# Altium schematic symbol library jlcpcb_2025_04_inductors_extended_0201.schlib: 459 symbols (part 3 of 9)
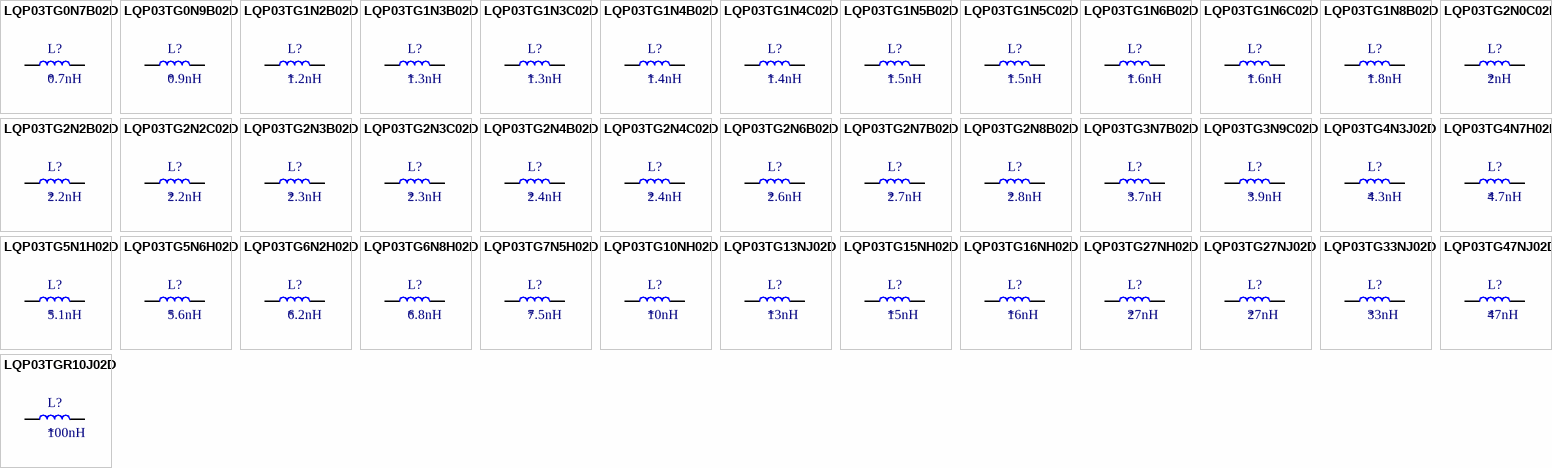
[diagram p13: symbols LQP03TG0N7B02D to LQP03TGR10J02D]

## LQP03TG6N8H02D
designator L?  Inductance: 6.8nH
Inductor, 6.8nH, ±3%, 1.15Ω, 200mA, SMD 0201; Manufacturer: Murata Electronics; Manufacturer Part Number: LQP03TG6N8H02D; Self-Resonant Frequency: 6.3GHz; Q Factor: 12@500MHz; Package Size: 0201; JLCPCB Basic Part: No; JLCPCB Part Number: C86120; Supplier 1: LCSC; Category: Inductors; Supplier Part Number 1: C86120; Tolerance: ±3%; Rated Current: 200mA; DC Resistance: 1.15Ω; RoHS: Yes; ComponentLink1Description: Datasheet; ComponentLink1URL: https://wmsc.lcsc.com/wmsc/upload/file/pdf/v2/lcsc/2304140030_Murata-Electronics-LQP03TG6N8H02D_C86120.pdf; ComponentLink2Description: JLCPCB Part URL; ComponentLink2URL: https://jlcpcb.com/partdetail/C86120; ComponentLink3Description: LCSC Part URL; ComponentLink3URL: https://lcsc.com/product-detail/Inductors-SMD_Murata-Electronics-Murata-Electronics-LQP03TG6N8H02D_C86120.html
footprint IND-0201 (0201 (0603M) Inductor)
pins: 1, 2

## LQP03TG7N5H02D
designator L?  Inductance: 7.5nH
Inductor, 7.5nH, ±3%, 1.22Ω, 200mA, SMD 0201; Manufacturer: Murata Electronics; Manufacturer Part Number: LQP03TG7N5H02D; Self-Resonant Frequency: 5.6GHz; Q Factor: 12@500MHz; Package Size: 0201; JLCPCB Basic Part: No; JLCPCB Part Number: C86121; Supplier 1: LCSC; Category: Inductors; Supplier Part Number 1: C86121; Tolerance: ±3%; Rated Current: 200mA; DC Resistance: 1.22Ω; RoHS: Yes; ComponentLink1Description: Datasheet; ComponentLink1URL: https://wmsc.lcsc.com/wmsc/upload/file/pdf/v2/lcsc/2304140030_Murata-Electronics-LQP03TG7N5H02D_C86121.pdf; ComponentLink2Description: JLCPCB Part URL; ComponentLink2URL: https://jlcpcb.com/partdetail/C86121; ComponentLink3Description: LCSC Part URL; ComponentLink3URL: https://lcsc.com/product-detail/Inductors-SMD_Murata-Electronics-Murata-Electronics-LQP03TG7N5H02D_C86121.html
footprint IND-0201 (0201 (0603M) Inductor)
pins: 1, 2

## LQP03TG10NH02D
designator L?  Inductance: 10nH
Inductor, 10nH, ±3%, 1.52Ω, 190mA, SMD 0201; Manufacturer: Murata Electronics; Manufacturer Part Number: LQP03TG10NH02D; Self-Resonant Frequency: 4.5GHz; Q Factor: 11@500MHz; Package Size: 0201; JLCPCB Basic Part: No; JLCPCB Part Number: C86095; Supplier 1: LCSC; Category: Inductors; Supplier Part Number 1: C86095; Tolerance: ±3%; Rated Current: 190mA; DC Resistance: 1.52Ω; RoHS: Yes; ComponentLink1Description: Datasheet; ComponentLink1URL: https://wmsc.lcsc.com/wmsc/upload/file/pdf/v2/lcsc/2304140030_Murata-Electronics-LQP03TG10NH02D_C86095.pdf; ComponentLink2Description: JLCPCB Part URL; ComponentLink2URL: https://jlcpcb.com/partdetail/C86095; ComponentLink3Description: LCSC Part URL; ComponentLink3URL: https://lcsc.com/product-detail/Inductors-SMD_Murata-Electronics-Murata-Electronics-LQP03TG10NH02D_C86095.html
footprint IND-0201 (0201 (0603M) Inductor)
pins: 1, 2

## LQP03TG13NJ02D
designator L?  Inductance: 13nH
Inductor, 13nH, ±5%, 1.82Ω, 170mA, SMD 0201; Manufacturer: Murata Electronics; Manufacturer Part Number: LQP03TG13NJ02D; Self-Resonant Frequency: 3.8GHz; Q Factor: 11@500MHz; Package Size: 0201; JLCPCB Basic Part: No; JLCPCB Part Number: C703742; Supplier 1: LCSC; Category: Inductors; Supplier Part Number 1: C703742; Tolerance: ±5%; Rated Current: 170mA; DC Resistance: 1.82Ω; RoHS: Yes; ComponentLink1Description: Datasheet; ComponentLink1URL: https://wmsc.lcsc.com/wmsc/upload/file/pdf/v2/lcsc/2304140030_Murata-Electronics-LQP03TG13NJ02D_C703742.pdf; ComponentLink2Description: JLCPCB Part URL; ComponentLink2URL: https://jlcpcb.com/partdetail/C703742; ComponentLink3Description: LCSC Part URL; ComponentLink3URL: https://lcsc.com/product-detail/Inductors-SMD_Murata-Electronics-Murata-Electronics-LQP03TG13NJ02D_C703742.html
footprint IND-0201 (0201 (0603M) Inductor)
pins: 1, 2

## LQP03TG15NH02D
designator L?  Inductance: 15nH
Inductor, 15nH, ±3%, 1.9Ω, 170mA, SMD 0201; Manufacturer: Murata Electronics; Manufacturer Part Number: LQP03TG15NH02D; Self-Resonant Frequency: 3.6GHz; Q Factor: 11@500MHz; Package Size: 0201; JLCPCB Basic Part: No; JLCPCB Part Number: C86097; Supplier 1: LCSC; Category: Inductors; Supplier Part Number 1: C86097; Tolerance: ±3%; Rated Current: 170mA; DC Resistance: 1.9Ω; RoHS: Yes; ComponentLink1Description: Datasheet; ComponentLink1URL: https://wmsc.lcsc.com/wmsc/upload/file/pdf/v2/lcsc/2304140030_Murata-Electronics-LQP03TG15NH02D_C86097.pdf; ComponentLink2Description: JLCPCB Part URL; ComponentLink2URL: https://jlcpcb.com/partdetail/C86097; ComponentLink3Description: LCSC Part URL; ComponentLink3URL: https://lcsc.com/product-detail/Inductors-SMD_Murata-Electronics-Murata-Electronics-LQP03TG15NH02D_C86097.html
footprint IND-0201 (0201 (0603M) Inductor)
pins: 1, 2

## LQP03TG16NH02D
designator L?  Inductance: 16nH
Inductor, 16nH, ±3%, 2.03Ω, 160mA, SMD 0201; Manufacturer: Murata Electronics; Manufacturer Part Number: LQP03TG16NH02D; Self-Resonant Frequency: 2.9GHz; Q Factor: 11@500MHz; Package Size: 0201; JLCPCB Basic Part: No; JLCPCB Part Number: C412257; Supplier 1: LCSC; Category: Inductors; Supplier Part Number 1: C412257; Tolerance: ±3%; Rated Current: 160mA; DC Resistance: 2.03Ω; RoHS: Yes; ComponentLink1Description: Datasheet; ComponentLink1URL: https://wmsc.lcsc.com/wmsc/upload/file/pdf/v2/lcsc/2304140030_Murata-Electronics-LQP03TG16NH02D_C412257.pdf; ComponentLink2Description: JLCPCB Part URL; ComponentLink2URL: https://jlcpcb.com/partdetail/C412257; ComponentLink3Description: LCSC Part URL; ComponentLink3URL: https://lcsc.com/product-detail/Inductors-SMD_Murata-Electronics-Murata-Electronics-LQP03TG16NH02D_C412257.html
footprint IND-0201 (0201 (0603M) Inductor)
pins: 1, 2

## LQP03TG27NH02D
designator L?  Inductance: 27nH
Inductor, 27nH, ±3%, 3.65Ω, 120mA, SMD 0201; Manufacturer: Murata Electronics; Manufacturer Part Number: LQP03TG27NH02D; Self-Resonant Frequency: 2.2GHz; Q Factor: 7@500MHz; Package Size: 0201; JLCPCB Basic Part: No; JLCPCB Part Number: C86105; Supplier 1: LCSC; Category: Inductors; Supplier Part Number 1: C86105; Tolerance: ±3%; Rated Current: 120mA; DC Resistance: 3.65Ω; RoHS: Yes; ComponentLink1Description: Datasheet; ComponentLink1URL: https://wmsc.lcsc.com/wmsc/upload/file/pdf/v2/lcsc/2304140030_Murata-Electronics-LQP03TG27NH02D_C86105.pdf; ComponentLink2Description: JLCPCB Part URL; ComponentLink2URL: https://jlcpcb.com/partdetail/C86105; ComponentLink3Description: LCSC Part URL; ComponentLink3URL: https://lcsc.com/product-detail/Inductors-SMD_Murata-Electronics-Murata-Electronics-LQP03TG27NH02D_C86105.html
footprint IND-0201 (0201 (0603M) Inductor)
pins: 1, 2

## LQP03TG27NJ02D
designator L?  Inductance: 27nH
Inductor, 27nH, ±5%, 3.65Ω, 120mA, SMD 0201; Manufacturer: Murata Electronics; Manufacturer Part Number: LQP03TG27NJ02D; Self-Resonant Frequency: 1.7GHz; Q Factor: 7@500MHz; Package Size: 0201; JLCPCB Basic Part: No; JLCPCB Part Number: C237582; Supplier 1: LCSC; Category: Inductors; Supplier Part Number 1: C237582; Tolerance: ±5%; Rated Current: 120mA; DC Resistance: 3.65Ω; RoHS: Yes; ComponentLink1Description: Datasheet; ComponentLink1URL: https://wmsc.lcsc.com/wmsc/upload/file/pdf/v2/lcsc/2308111548_Murata-Electronics-LQP03TG27NJ02D_C237582.pdf; ComponentLink2Description: JLCPCB Part URL; ComponentLink2URL: https://jlcpcb.com/partdetail/C237582; ComponentLink3Description: LCSC Part URL; ComponentLink3URL: https://lcsc.com/product-detail/Inductors-SMD_Murata-Electronics-Murata-Electronics-LQP03TG27NJ02D_C237582.html
footprint IND-0201 (0201 (0603M) Inductor)
pins: 1, 2

## LQP03TG33NJ02D
designator L?  Inductance: 33nH
Inductor, 33nH, ±5%, 4.25Ω, 110mA, SMD 0201; Manufacturer: Murata Electronics; Manufacturer Part Number: LQP03TG33NJ02D; Self-Resonant Frequency: 2GHz; Q Factor: 7@300MHz; Package Size: 0201; JLCPCB Basic Part: No; JLCPCB Part Number: C337948; Supplier 1: LCSC; Category: Inductors; Supplier Part Number 1: C337948; Tolerance: ±5%; Rated Current: 110mA; DC Resistance: 4.25Ω; RoHS: Yes; ComponentLink1Description: Datasheet; ComponentLink1URL: https://wmsc.lcsc.com/wmsc/upload/file/pdf/v2/lcsc/2304140030_Murata-Electronics-LQP03TG33NJ02D_C337948.pdf; ComponentLink2Description: JLCPCB Part URL; ComponentLink2URL: https://jlcpcb.com/partdetail/C337948; ComponentLink3Description: LCSC Part URL; ComponentLink3URL: https://lcsc.com/product-detail/Inductors-SMD_Murata-Electronics-Murata-Electronics-LQP03TG33NJ02D_C337948.html
footprint IND-0201 (0201 (0603M) Inductor)
pins: 1, 2

## LQP03TG47NJ02D
designator L?  Inductance: 47nH
Inductor, 47nH, ±5%, 5.2Ω, 100mA, SMD 0201; Manufacturer: Murata Electronics; Manufacturer Part Number: LQP03TG47NJ02D; Self-Resonant Frequency: 1.3GHz; Q Factor: 7@300MHz; Package Size: 0201; JLCPCB Basic Part: No; JLCPCB Part Number: C86115; Supplier 1: LCSC; Category: Inductors; Supplier Part Number 1: C86115; Tolerance: ±5%; Rated Current: 100mA; DC Resistance: 5.2Ω; RoHS: Yes; ComponentLink1Description: Datasheet; ComponentLink1URL: https://wmsc.lcsc.com/wmsc/upload/file/pdf/v2/lcsc/2304140030_Murata-Electronics-LQP03TG47NJ02D_C86115.pdf; ComponentLink2Description: JLCPCB Part URL; ComponentLink2URL: https://jlcpcb.com/partdetail/C86115; ComponentLink3Description: LCSC Part URL; ComponentLink3URL: https://lcsc.com/product-detail/Inductors-SMD_Murata-Electronics-Murata-Electronics-LQP03TG47NJ02D_C86115.html
footprint IND-0201 (0201 (0603M) Inductor)
pins: 1, 2

## LQP03TGR10J02D
designator L?  Inductance: 100nH
Inductor, 100nH, ±5%, 8.05Ω, 80mA, SMD 0201; Manufacturer: Murata Electronics; Manufacturer Part Number: LQP03TGR10J02D; Self-Resonant Frequency: 900MHz; Q Factor: 6@300MHz; Package Size: 0201; JLCPCB Basic Part: No; JLCPCB Part Number: C237577; Supplier 1: LCSC; Category: Inductors; Supplier Part Number 1: C237577; Tolerance: ±5%; Rated Current: 80mA; DC Resistance: 8.05Ω; RoHS: Yes; ComponentLink1Description: Datasheet; ComponentLink1URL: https://wmsc.lcsc.com/wmsc/upload/file/pdf/v2/lcsc/2308111548_Murata-Electronics-LQP03TGR10J02D_C237577.pdf; ComponentLink2Description: JLCPCB Part URL; ComponentLink2URL: https://jlcpcb.com/partdetail/C237577; ComponentLink3Description: LCSC Part URL; ComponentLink3URL: https://lcsc.com/product-detail/Inductors-SMD_Murata-Electronics-Murata-Electronics-LQP03TGR10J02D_C237577.html
footprint IND-0201 (0201 (0603M) Inductor)
pins: 1, 2

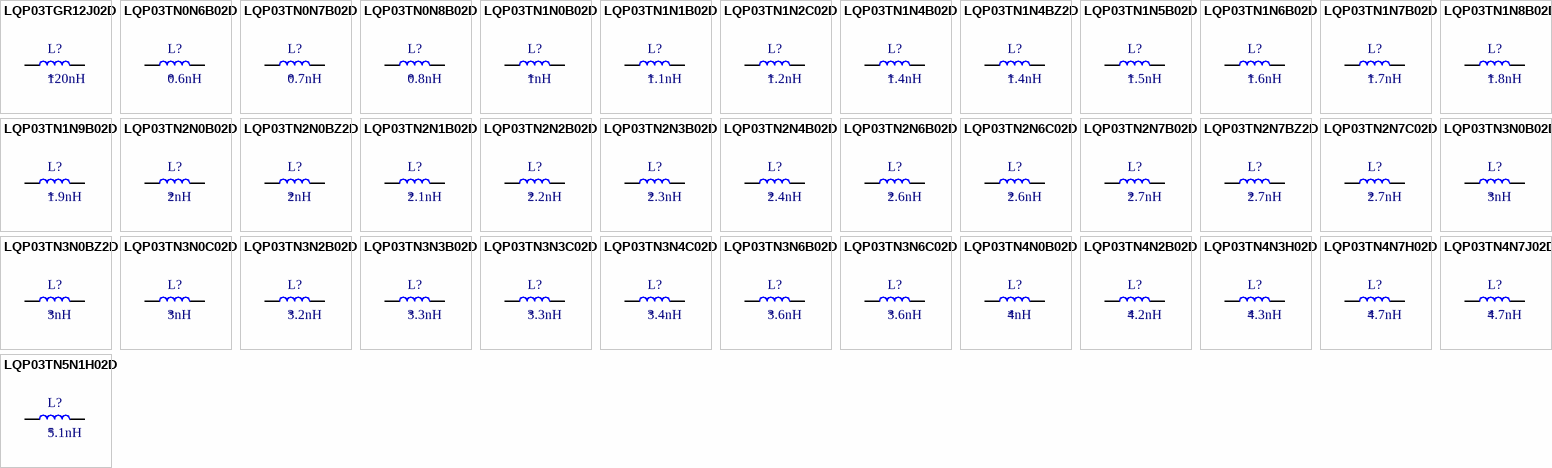
[diagram p3: symbols LQP03TGR12J02D to LQP03TN5N1H02D]

## LQP03TGR12J02D
designator L?  Inductance: 120nH
Inductor, 120nH, ±5%, 8.75Ω, 80mA, SMD 0201; Manufacturer: Murata Electronics; Manufacturer Part Number: LQP03TGR12J02D; Self-Resonant Frequency: 800MHz; Q Factor: 6@300MHz; Package Size: 0201; JLCPCB Basic Part: No; JLCPCB Part Number: C237580; Supplier 1: LCSC; Category: Inductors; Supplier Part Number 1: C237580; Tolerance: ±5%; Rated Current: 80mA; DC Resistance: 8.75Ω; RoHS: Yes; ComponentLink1Description: Datasheet; ComponentLink1URL: https://wmsc.lcsc.com/wmsc/upload/file/pdf/v2/lcsc/2304140030_Murata-Electronics-LQP03TGR12J02D_C237580.pdf; ComponentLink2Description: JLCPCB Part URL; ComponentLink2URL: https://jlcpcb.com/partdetail/C237580; ComponentLink3Description: LCSC Part URL; ComponentLink3URL: https://lcsc.com/product-detail/Inductors-SMD_Murata-Electronics-Murata-Electronics-LQP03TGR12J02D_C237580.html
footprint IND-0201 (0201 (0603M) Inductor)
pins: 1, 2

## LQP03TN0N6B02D
designator L?  Inductance: 0.6nH
Inductor, 0.6nH, 70mΩ, 850mA, SMD 0201; Manufacturer: Murata Electronics; Manufacturer Part Number: LQP03TN0N6B02D; Self-Resonant Frequency: 20GHz; Q Factor: 14@500MHz; Package Size: 0201; JLCPCB Basic Part: No; JLCPCB Part Number: C77699; Supplier 1: LCSC; Category: Inductors; Supplier Part Number 1: C77699; Rated Current: 850mA; DC Resistance: 70mΩ; RoHS: Yes; ComponentLink1Description: Datasheet; ComponentLink1URL: https://wmsc.lcsc.com/wmsc/upload/file/pdf/v2/lcsc/1811081522_Murata-Electronics-LQP03TN0N6B02D_C77699.pdf; ComponentLink2Description: JLCPCB Part URL; ComponentLink2URL: https://jlcpcb.com/partdetail/C77699; ComponentLink3Description: LCSC Part URL; ComponentLink3URL: https://lcsc.com/product-detail/Inductors-SMD_Murata-Electronics-Murata-Electronics-LQP03TN0N6B02D_C77699.html
footprint IND-0201 (0201 (0603M) Inductor)
pins: 1, 2

## LQP03TN0N7B02D
designator L?  Inductance: 0.7nH
Inductor, 0.7nH, 80mΩ, 800mA, SMD 0201; Manufacturer: Murata Electronics; Manufacturer Part Number: LQP03TN0N7B02D; Self-Resonant Frequency: 20GHz; Q Factor: 14@500MHz; Package Size: 0201; JLCPCB Basic Part: No; JLCPCB Part Number: C157593; Supplier 1: LCSC; Category: Inductors; Supplier Part Number 1: C157593; Rated Current: 800mA; DC Resistance: 80mΩ; RoHS: Yes; ComponentLink1Description: Datasheet; ComponentLink1URL: https://wmsc.lcsc.com/wmsc/upload/file/pdf/v2/lcsc/2304140030_Murata-Electronics-LQP03TN0N7B02D_C157593.pdf; ComponentLink2Description: JLCPCB Part URL; ComponentLink2URL: https://jlcpcb.com/partdetail/C157593; ComponentLink3Description: LCSC Part URL; ComponentLink3URL: https://lcsc.com/product-detail/Inductors-SMD_Murata-Electronics-Murata-Electronics-LQP03TN0N7B02D_C157593.html
footprint IND-0201 (0201 (0603M) Inductor)
pins: 1, 2

## LQP03TN0N8B02D
designator L?  Inductance: 0.8nH
Inductor, 0.8nH, 80mΩ, 800mA, SMD 0201; Manufacturer: Murata Electronics; Manufacturer Part Number: LQP03TN0N8B02D; Self-Resonant Frequency: 18GHz; Q Factor: 14@500MHz; Package Size: 0201; JLCPCB Basic Part: No; JLCPCB Part Number: C156227; Supplier 1: LCSC; Category: Inductors; Supplier Part Number 1: C156227; Rated Current: 800mA; DC Resistance: 80mΩ; RoHS: Yes; ComponentLink1Description: Datasheet; ComponentLink1URL: https://wmsc.lcsc.com/wmsc/upload/file/pdf/v2/lcsc/2304140030_Murata-Electronics-LQP03TN0N8B02D_C156227.pdf; ComponentLink2Description: JLCPCB Part URL; ComponentLink2URL: https://jlcpcb.com/partdetail/C156227; ComponentLink3Description: LCSC Part URL; ComponentLink3URL: https://lcsc.com/product-detail/Inductors-SMD_Murata-Electronics-Murata-Electronics-LQP03TN0N8B02D_C156227.html
footprint IND-0201 (0201 (0603M) Inductor)
pins: 1, 2

## LQP03TN1N0B02D
designator L?  Inductance: 1nH
Inductor, 1nH, 100mΩ, 750mA, SMD 0201; Manufacturer: Murata Electronics; Manufacturer Part Number: LQP03TN1N0B02D; Self-Resonant Frequency: 17GHz; Q Factor: 14@500MHz; Package Size: 0201; JLCPCB Basic Part: No; JLCPCB Part Number: C98039; Supplier 1: LCSC; Category: Inductors; Supplier Part Number 1: C98039; Rated Current: 750mA; DC Resistance: 100mΩ; RoHS: Yes; ComponentLink1Description: Datasheet; ComponentLink1URL: https://wmsc.lcsc.com/wmsc/upload/file/pdf/v2/lcsc/2304140030_Murata-Electronics-LQP03TN1N0B02D_C98039.pdf; ComponentLink2Description: JLCPCB Part URL; ComponentLink2URL: https://jlcpcb.com/partdetail/C98039; ComponentLink3Description: LCSC Part URL; ComponentLink3URL: https://lcsc.com/product-detail/Inductors-SMD_Murata-Electronics-Murata-Electronics-LQP03TN1N0B02D_C98039.html
footprint IND-0201 (0201 (0603M) Inductor)
pins: 1, 2

## LQP03TN1N1B02D
designator L?  Inductance: 1.1nH
Inductor, 1.1nH, 100mΩ, 750mA, SMD 0201; Manufacturer: Murata Electronics; Manufacturer Part Number: LQP03TN1N1B02D; Self-Resonant Frequency: 17GHz; Q Factor: 14@500MHz; Package Size: 0201; JLCPCB Basic Part: No; JLCPCB Part Number: C206452; Supplier 1: LCSC; Category: Inductors; Supplier Part Number 1: C206452; Rated Current: 750mA; DC Resistance: 100mΩ; RoHS: Yes; ComponentLink1Description: Datasheet; ComponentLink1URL: https://wmsc.lcsc.com/wmsc/upload/file/pdf/v2/lcsc/2304140030_Murata-Electronics-LQP03TN1N1B02D_C206452.pdf; ComponentLink2Description: JLCPCB Part URL; ComponentLink2URL: https://jlcpcb.com/partdetail/C206452; ComponentLink3Description: LCSC Part URL; ComponentLink3URL: https://lcsc.com/product-detail/Inductors-SMD_Murata-Electronics-Murata-Electronics-LQP03TN1N1B02D_C206452.html
footprint IND-0201 (0201 (0603M) Inductor)
pins: 1, 2

## LQP03TN1N2C02D
designator L?  Inductance: 1.2nH
Inductor, 1.2nH, 100mΩ, 750mA, SMD 0201; Manufacturer: Murata Electronics; Manufacturer Part Number: LQP03TN1N2C02D; Self-Resonant Frequency: 17GHz; Q Factor: 14@500MHz; Package Size: 0201; JLCPCB Basic Part: No; JLCPCB Part Number: C206450; Supplier 1: LCSC; Category: Inductors; Supplier Part Number 1: C206450; Rated Current: 750mA; DC Resistance: 100mΩ; RoHS: Yes; ComponentLink1Description: Datasheet; ComponentLink1URL: https://wmsc.lcsc.com/wmsc/upload/file/pdf/v2/lcsc/2304140030_Murata-Electronics-LQP03TN1N2C02D_C206450.pdf; ComponentLink2Description: JLCPCB Part URL; ComponentLink2URL: https://jlcpcb.com/partdetail/C206450; ComponentLink3Description: LCSC Part URL; ComponentLink3URL: https://lcsc.com/product-detail/Inductors-SMD_Murata-Electronics-Murata-Electronics-LQP03TN1N2C02D_C206450.html
footprint IND-0201 (0201 (0603M) Inductor)
pins: 1, 2

## LQP03TN1N4B02D
designator L?  Inductance: 1.4nH
Inductor, 1.4nH, 150mΩ, 600mA, SMD 0201; Manufacturer: Murata Electronics; Manufacturer Part Number: LQP03TN1N4B02D; Self-Resonant Frequency: 16GHz; Q Factor: 14@500MHz; Package Size: 0201; JLCPCB Basic Part: No; JLCPCB Part Number: C162602; Supplier 1: LCSC; Category: Inductors; Supplier Part Number 1: C162602; Rated Current: 600mA; DC Resistance: 150mΩ; RoHS: Yes; ComponentLink1Description: Datasheet; ComponentLink1URL: https://wmsc.lcsc.com/wmsc/upload/file/pdf/v2/lcsc/2304140030_Murata-Electronics-LQP03TN1N4B02D_C162602.pdf; ComponentLink2Description: JLCPCB Part URL; ComponentLink2URL: https://jlcpcb.com/partdetail/C162602; ComponentLink3Description: LCSC Part URL; ComponentLink3URL: https://lcsc.com/product-detail/Inductors-SMD_Murata-Electronics-Murata-Electronics-LQP03TN1N4B02D_C162602.html
footprint IND-0201 (0201 (0603M) Inductor)
pins: 1, 2

## LQP03TN1N4BZ2D
designator L?  Inductance: 1.4nH
Inductor, 1.4nH, 150mΩ, 600mA, SMD 0201; Manufacturer: Murata Electronics; Manufacturer Part Number: LQP03TN1N4BZ2D; Package Size: 0201; JLCPCB Basic Part: No; JLCPCB Part Number: C162603; Supplier 1: LCSC; Category: Inductors; Supplier Part Number 1: C162603; Rated Current: 600mA; DC Resistance: 150mΩ; RoHS: Yes; ComponentLink1Description: Datasheet; ComponentLink1URL: https://wmsc.lcsc.com/wmsc/upload/file/pdf/v2/lcsc/1811081533_Murata-Electronics-LQP03TN1N4BZ2D_C162603.pdf; ComponentLink2Description: JLCPCB Part URL; ComponentLink2URL: https://jlcpcb.com/partdetail/C162603; ComponentLink3Description: LCSC Part URL; ComponentLink3URL: https://lcsc.com/product-detail/Inductors-SMD_Murata-Electronics-Murata-Electronics-LQP03TN1N4BZ2D_C162603.html
footprint IND-0201 (0201 (0603M) Inductor)
pins: 1, 2

## LQP03TN1N5B02D
designator L?  Inductance: 1.5nH
Inductor, 1.5nH, 150mΩ, 600mA, SMD 0201; Manufacturer: Murata Electronics; Manufacturer Part Number: LQP03TN1N5B02D; Self-Resonant Frequency: 15GHz; Q Factor: 14@500MHz; Package Size: 0201; JLCPCB Basic Part: No; JLCPCB Part Number: C77114; Supplier 1: LCSC; Category: Inductors; Supplier Part Number 1: C77114; Rated Current: 600mA; DC Resistance: 150mΩ; RoHS: Yes; ComponentLink1Description: Datasheet; ComponentLink1URL: https://wmsc.lcsc.com/wmsc/upload/file/pdf/v2/lcsc/2304140030_Murata-Electronics-LQP03TN1N5B02D_C77114.pdf; ComponentLink2Description: JLCPCB Part URL; ComponentLink2URL: https://jlcpcb.com/partdetail/C77114; ComponentLink3Description: LCSC Part URL; ComponentLink3URL: https://lcsc.com/product-detail/Inductors-SMD_Murata-Electronics-Murata-Electronics-LQP03TN1N5B02D_C77114.html
footprint IND-0201 (0201 (0603M) Inductor)
pins: 1, 2

## LQP03TN1N6B02D
designator L?  Inductance: 1.6nH
Inductor, 1.6nH, 150mΩ, 600mA, SMD 0201; Manufacturer: Murata Electronics; Manufacturer Part Number: LQP03TN1N6B02D; Self-Resonant Frequency: 15GHz; Q Factor: 14@500MHz; Package Size: 0201; JLCPCB Basic Part: No; JLCPCB Part Number: C162604; Supplier 1: LCSC; Category: Inductors; Supplier Part Number 1: C162604; Rated Current: 600mA; DC Resistance: 150mΩ; RoHS: Yes; ComponentLink1Description: Datasheet; ComponentLink1URL: https://wmsc.lcsc.com/wmsc/upload/file/pdf/v2/lcsc/2304140030_Murata-Electronics-LQP03TN1N6B02D_C162604.pdf; ComponentLink2Description: JLCPCB Part URL; ComponentLink2URL: https://jlcpcb.com/partdetail/C162604; ComponentLink3Description: LCSC Part URL; ComponentLink3URL: https://lcsc.com/product-detail/Inductors-SMD_Murata-Electronics-Murata-Electronics-LQP03TN1N6B02D_C162604.html
footprint IND-0201 (0201 (0603M) Inductor)
pins: 1, 2

## LQP03TN1N7B02D
designator L?  Inductance: 1.7nH
Inductor, 1.7nH, 150mΩ, 600mA, SMD 0201; Manufacturer: Murata Electronics; Manufacturer Part Number: LQP03TN1N7B02D; Self-Resonant Frequency: 15GHz; Q Factor: 14@500MHz; Package Size: 0201; JLCPCB Basic Part: No; JLCPCB Part Number: C157592; Supplier 1: LCSC; Category: Inductors; Supplier Part Number 1: C157592; Rated Current: 600mA; DC Resistance: 150mΩ; RoHS: Yes; ComponentLink1Description: Datasheet; ComponentLink1URL: https://wmsc.lcsc.com/wmsc/upload/file/pdf/v2/lcsc/2304140030_Murata-Electronics-LQP03TN1N7B02D_C157592.pdf; ComponentLink2Description: JLCPCB Part URL; ComponentLink2URL: https://jlcpcb.com/partdetail/C157592; ComponentLink3Description: LCSC Part URL; ComponentLink3URL: https://lcsc.com/product-detail/Inductors-SMD_Murata-Electronics-Murata-Electronics-LQP03TN1N7B02D_C157592.html
footprint IND-0201 (0201 (0603M) Inductor)
pins: 1, 2

## LQP03TN1N8B02D
designator L?  Inductance: 1.8nH
Inductor, 1.8nH, 150mΩ, 600mA, SMD 0201; Manufacturer: Murata Electronics; Manufacturer Part Number: LQP03TN1N8B02D; Self-Resonant Frequency: 15GHz; Q Factor: 14@500MHz; Package Size: 0201; JLCPCB Basic Part: No; JLCPCB Part Number: C98040; Supplier 1: LCSC; Category: Inductors; Supplier Part Number 1: C98040; Rated Current: 600mA; DC Resistance: 150mΩ; RoHS: Yes; ComponentLink1Description: Datasheet; ComponentLink1URL: https://wmsc.lcsc.com/wmsc/upload/file/pdf/v2/lcsc/2304140030_Murata-Electronics-LQP03TN1N8B02D_C98040.pdf; ComponentLink2Description: JLCPCB Part URL; ComponentLink2URL: https://jlcpcb.com/partdetail/C98040; ComponentLink3Description: LCSC Part URL; ComponentLink3URL: https://lcsc.com/product-detail/Inductors-SMD_Murata-Electronics-Murata-Electronics-LQP03TN1N8B02D_C98040.html
footprint IND-0201 (0201 (0603M) Inductor)
pins: 1, 2

## LQP03TN1N9B02D
designator L?  Inductance: 1.9nH
Inductor, 1.9nH, 150mΩ, 600mA, SMD 0201; Manufacturer: Murata Electronics; Manufacturer Part Number: LQP03TN1N9B02D; Self-Resonant Frequency: 12.5GHz; Q Factor: 14@500MHz; Package Size: 0201; JLCPCB Basic Part: No; JLCPCB Part Number: C206445; Supplier 1: LCSC; Category: Inductors; Supplier Part Number 1: C206445; Rated Current: 600mA; DC Resistance: 150mΩ; RoHS: Yes; ComponentLink1Description: Datasheet; ComponentLink1URL: https://wmsc.lcsc.com/wmsc/upload/file/pdf/v2/lcsc/2304140030_Murata-Electronics-LQP03TN1N9B02D_C206445.pdf; ComponentLink2Description: JLCPCB Part URL; ComponentLink2URL: https://jlcpcb.com/partdetail/C206445; ComponentLink3Description: LCSC Part URL; ComponentLink3URL: https://lcsc.com/product-detail/Inductors-SMD_Murata-Electronics-Murata-Electronics-LQP03TN1N9B02D_C206445.html
footprint IND-0201 (0201 (0603M) Inductor)
pins: 1, 2

## LQP03TN2N0B02D
designator L?  Inductance: 2nH
Inductor, 2nH, 150mΩ, 600mA, SMD 0201; Manufacturer: Murata Electronics; Manufacturer Part Number: LQP03TN2N0B02D; Self-Resonant Frequency: 12.5GHz; Q Factor: 14@500MHz; Package Size: 0201; JLCPCB Basic Part: No; JLCPCB Part Number: C86125; Supplier 1: LCSC; Category: Inductors; Supplier Part Number 1: C86125; Rated Current: 600mA; DC Resistance: 150mΩ; RoHS: Yes; ComponentLink1Description: Datasheet; ComponentLink1URL: https://wmsc.lcsc.com/wmsc/upload/file/pdf/v2/lcsc/2304140030_Murata-Electronics-LQP03TN2N0B02D_C86125.pdf; ComponentLink2Description: JLCPCB Part URL; ComponentLink2URL: https://jlcpcb.com/partdetail/C86125; ComponentLink3Description: LCSC Part URL; ComponentLink3URL: https://lcsc.com/product-detail/Inductors-SMD_Murata-Electronics-Murata-Electronics-LQP03TN2N0B02D_C86125.html
footprint IND-0201 (0201 (0603M) Inductor)
pins: 1, 2

## LQP03TN2N0BZ2D
designator L?  Inductance: 2nH
Inductor, 2nH, 150mΩ, 600mA, SMD 0201; Manufacturer: Murata Electronics; Manufacturer Part Number: LQP03TN2N0BZ2D; Self-Resonant Frequency: 12.5GHz; Q Factor: 14@500MHz; Package Size: 0201; JLCPCB Basic Part: No; JLCPCB Part Number: C3910682; Supplier 1: LCSC; Category: Inductors; Supplier Part Number 1: C3910682; Rated Current: 600mA; DC Resistance: 150mΩ; RoHS: Yes; ComponentLink1Description: Datasheet; ComponentLink1URL: https://wmsc.lcsc.com/wmsc/upload/file/pdf/v2/lcsc/2308111609_Murata-Electronics-LQP03TN2N0BZ2D_C3910682.pdf; ComponentLink2Description: JLCPCB Part URL; ComponentLink2URL: https://jlcpcb.com/partdetail/C3910682; ComponentLink3Description: LCSC Part URL; ComponentLink3URL: https://lcsc.com/product-detail/Inductors-SMD_Murata-Electronics-Murata-Electronics-LQP03TN2N0BZ2D_C3910682.html
footprint IND-0201 (0201 (0603M) Inductor)
pins: 1, 2

## LQP03TN2N1B02D
designator L?  Inductance: 2.1nH
Inductor, 2.1nH, 150mΩ, 600mA, SMD 0201; Manufacturer: Murata Electronics; Manufacturer Part Number: LQP03TN2N1B02D; Self-Resonant Frequency: 11GHz; Q Factor: 14@500MHz; Package Size: 0201; JLCPCB Basic Part: No; JLCPCB Part Number: C162608; Supplier 1: LCSC; Category: Inductors; Supplier Part Number 1: C162608; Rated Current: 600mA; DC Resistance: 150mΩ; RoHS: Yes; ComponentLink1Description: Datasheet; ComponentLink1URL: https://wmsc.lcsc.com/wmsc/upload/file/pdf/v2/lcsc/2304140030_Murata-Electronics-LQP03TN2N1B02D_C162608.pdf; ComponentLink2Description: JLCPCB Part URL; ComponentLink2URL: https://jlcpcb.com/partdetail/C162608; ComponentLink3Description: LCSC Part URL; ComponentLink3URL: https://lcsc.com/product-detail/Inductors-SMD_Murata-Electronics-Murata-Electronics-LQP03TN2N1B02D_C162608.html
footprint IND-0201 (0201 (0603M) Inductor)
pins: 1, 2

## LQP03TN2N2B02D
designator L?  Inductance: 2.2nH
Inductor, 2.2nH, 150mΩ, 600mA, SMD 0201; Manufacturer: Murata Electronics; Manufacturer Part Number: LQP03TN2N2B02D; Self-Resonant Frequency: 11GHz; Q Factor: 14@500MHz; Package Size: 0201; JLCPCB Basic Part: No; JLCPCB Part Number: C98041; Supplier 1: LCSC; Category: Inductors; Supplier Part Number 1: C98041; Rated Current: 600mA; DC Resistance: 150mΩ; RoHS: Yes; ComponentLink1Description: Datasheet; ComponentLink1URL: https://wmsc.lcsc.com/wmsc/upload/file/pdf/v2/lcsc/2304140030_Murata-Electronics-LQP03TN2N2B02D_C98041.pdf; ComponentLink2Description: JLCPCB Part URL; ComponentLink2URL: https://jlcpcb.com/partdetail/C98041; ComponentLink3Description: LCSC Part URL; ComponentLink3URL: https://lcsc.com/product-detail/Inductors-SMD_Murata-Electronics-Murata-Electronics-LQP03TN2N2B02D_C98041.html
footprint IND-0201 (0201 (0603M) Inductor)
pins: 1, 2

## LQP03TN2N3B02D
designator L?  Inductance: 2.3nH
Inductor, 2.3nH, 200mΩ, 500mA, SMD 0201; Manufacturer: Murata Electronics; Manufacturer Part Number: LQP03TN2N3B02D; Self-Resonant Frequency: 10GHz; Q Factor: 14@500MHz; Package Size: 0201; JLCPCB Basic Part: No; JLCPCB Part Number: C206438; Supplier 1: LCSC; Category: Inductors; Supplier Part Number 1: C206438; Rated Current: 500mA; DC Resistance: 200mΩ; RoHS: Yes; ComponentLink1Description: Datasheet; ComponentLink1URL: https://wmsc.lcsc.com/wmsc/upload/file/pdf/v2/lcsc/2304140030_Murata-Electronics-LQP03TN2N3B02D_C206438.pdf; ComponentLink2Description: JLCPCB Part URL; ComponentLink2URL: https://jlcpcb.com/partdetail/C206438; ComponentLink3Description: LCSC Part URL; ComponentLink3URL: https://lcsc.com/product-detail/Inductors-SMD_Murata-Electronics-Murata-Electronics-LQP03TN2N3B02D_C206438.html
footprint IND-0201 (0201 (0603M) Inductor)
pins: 1, 2

## LQP03TN2N4B02D
designator L?  Inductance: 2.4nH
Inductor, 2.4nH, 200mΩ, 500mA, SMD 0201; Manufacturer: Murata Electronics; Manufacturer Part Number: LQP03TN2N4B02D; Self-Resonant Frequency: 10GHz; Q Factor: 14@500MHz; Package Size: 0201; JLCPCB Basic Part: No; JLCPCB Part Number: C98042; Supplier 1: LCSC; Category: Inductors; Supplier Part Number 1: C98042; Rated Current: 500mA; DC Resistance: 200mΩ; RoHS: Yes; ComponentLink1Description: Datasheet; ComponentLink1URL: https://wmsc.lcsc.com/wmsc/upload/file/pdf/v2/lcsc/2304140030_Murata-Electronics-LQP03TN2N4B02D_C98042.pdf; ComponentLink2Description: JLCPCB Part URL; ComponentLink2URL: https://jlcpcb.com/partdetail/C98042; ComponentLink3Description: LCSC Part URL; ComponentLink3URL: https://lcsc.com/product-detail/Inductors-SMD_Murata-Electronics-Murata-Electronics-LQP03TN2N4B02D_C98042.html
footprint IND-0201 (0201 (0603M) Inductor)
pins: 1, 2

## LQP03TN2N6B02D
designator L?  Inductance: 2.6nH
Inductor, 2.6nH, 200mΩ, 500mA, SMD 0201; Manufacturer: Murata Electronics; Manufacturer Part Number: LQP03TN2N6B02D; Self-Resonant Frequency: 10GHz; Q Factor: 14@500MHz; Package Size: 0201; JLCPCB Basic Part: No; JLCPCB Part Number: C162609; Supplier 1: LCSC; Category: Inductors; Supplier Part Number 1: C162609; Rated Current: 500mA; DC Resistance: 200mΩ; RoHS: Yes; ComponentLink1Description: Datasheet; ComponentLink1URL: https://wmsc.lcsc.com/wmsc/upload/file/pdf/v2/lcsc/2304140030_Murata-Electronics-LQP03TN2N6B02D_C162609.pdf; ComponentLink2Description: JLCPCB Part URL; ComponentLink2URL: https://jlcpcb.com/partdetail/C162609; ComponentLink3Description: LCSC Part URL; ComponentLink3URL: https://lcsc.com/product-detail/Inductors-SMD_Murata-Electronics-Murata-Electronics-LQP03TN2N6B02D_C162609.html
footprint IND-0201 (0201 (0603M) Inductor)
pins: 1, 2

## LQP03TN2N6C02D
designator L?  Inductance: 2.6nH
Inductor, 2.6nH, 200mΩ, 500mA, SMD 0201; Manufacturer: Murata Electronics; Manufacturer Part Number: LQP03TN2N6C02D; Self-Resonant Frequency: 10GHz; Q Factor: 14@500MHz; Package Size: 0201; JLCPCB Basic Part: No; JLCPCB Part Number: C3020652; Supplier 1: LCSC; Category: Inductors; Supplier Part Number 1: C3020652; Rated Current: 500mA; DC Resistance: 200mΩ; RoHS: Yes; ComponentLink1Description: Datasheet; ComponentLink1URL: https://wmsc.lcsc.com/wmsc/upload/file/pdf/v2/lcsc/2205241800_Murata-Electronics-LQP03TN2N6C02D_C3020652.pdf; ComponentLink2Description: JLCPCB Part URL; ComponentLink2URL: https://jlcpcb.com/partdetail/C3020652; ComponentLink3Description: LCSC Part URL; ComponentLink3URL: https://lcsc.com/product-detail/Inductors-SMD_Murata-Electronics-Murata-Electronics-LQP03TN2N6C02D_C3020652.html
footprint IND-0201 (0201 (0603M) Inductor)
pins: 1, 2

## LQP03TN2N7B02D
designator L?  Inductance: 2.7nH
Inductor, 2.7nH, 200mΩ, 500mA, SMD 0201; Manufacturer: Murata Electronics; Manufacturer Part Number: LQP03TN2N7B02D; Self-Resonant Frequency: 10GHz; Q Factor: 14@500MHz; Package Size: 0201; JLCPCB Basic Part: No; JLCPCB Part Number: C98043; Supplier 1: LCSC; Category: Inductors; Supplier Part Number 1: C98043; Rated Current: 500mA; DC Resistance: 200mΩ; RoHS: Yes; ComponentLink1Description: Datasheet; ComponentLink1URL: https://wmsc.lcsc.com/wmsc/upload/file/pdf/v2/lcsc/2304140030_Murata-Electronics-LQP03TN2N7B02D_C98043.pdf; ComponentLink2Description: JLCPCB Part URL; ComponentLink2URL: https://jlcpcb.com/partdetail/C98043; ComponentLink3Description: LCSC Part URL; ComponentLink3URL: https://lcsc.com/product-detail/Inductors-SMD_Murata-Electronics-Murata-Electronics-LQP03TN2N7B02D_C98043.html
footprint IND-0201 (0201 (0603M) Inductor)
pins: 1, 2

## LQP03TN2N7BZ2D
designator L?  Inductance: 2.7nH
Inductor, 2.7nH, 200mΩ, 500mA, SMD 0201; Manufacturer: Murata Electronics; Manufacturer Part Number: LQP03TN2N7BZ2D; Self-Resonant Frequency: 10GHz; Q Factor: 14@500MHz; Package Size: 0201; JLCPCB Basic Part: No; JLCPCB Part Number: C2043494; Supplier 1: LCSC; Category: Inductors; Supplier Part Number 1: C2043494; Rated Current: 500mA; DC Resistance: 200mΩ; RoHS: Yes; ComponentLink1Description: Datasheet; ComponentLink1URL: https://wmsc.lcsc.com/wmsc/upload/file/pdf/v2/lcsc/2304140030_Murata-Electronics-LQP03TN2N7BZ2D_C2043494.pdf; ComponentLink2Description: JLCPCB Part URL; ComponentLink2URL: https://jlcpcb.com/partdetail/C2043494; ComponentLink3Description: LCSC Part URL; ComponentLink3URL: https://lcsc.com/product-detail/Inductors-SMD_Murata-Electronics-Murata-Electronics-LQP03TN2N7BZ2D_C2043494.html
footprint IND-0201 (0201 (0603M) Inductor)
pins: 1, 2

## LQP03TN2N7C02D
designator L?  Inductance: 2.7nH
Inductor, 2.7nH, 200mΩ, 500mA, SMD 0201; Manufacturer: Murata Electronics; Manufacturer Part Number: LQP03TN2N7C02D; Self-Resonant Frequency: 10GHz; Q Factor: 14@500MHz; Package Size: 0201; JLCPCB Basic Part: No; JLCPCB Part Number: C185546; Supplier 1: LCSC; Category: Inductors; Supplier Part Number 1: C185546; Rated Current: 500mA; DC Resistance: 200mΩ; RoHS: Yes; ComponentLink1Description: Datasheet; ComponentLink1URL: https://wmsc.lcsc.com/wmsc/upload/file/pdf/v2/lcsc/2304140030_Murata-Electronics-LQP03TN2N7C02D_C185546.pdf; ComponentLink2Description: JLCPCB Part URL; ComponentLink2URL: https://jlcpcb.com/partdetail/C185546; ComponentLink3Description: LCSC Part URL; ComponentLink3URL: https://lcsc.com/product-detail/Inductors-SMD_Murata-Electronics-Murata-Electronics-LQP03TN2N7C02D_C185546.html
footprint IND-0201 (0201 (0603M) Inductor)
pins: 1, 2

## LQP03TN3N0B02D
designator L?  Inductance: 3nH
Inductor, 3nH, 250mΩ, 450mA, SMD 0201; Manufacturer: Murata Electronics; Manufacturer Part Number: LQP03TN3N0B02D; Self-Resonant Frequency: 9.5GHz; Q Factor: 14@500MHz; Package Size: 0201; JLCPCB Basic Part: No; JLCPCB Part Number: C98044; Supplier 1: LCSC; Category: Inductors; Supplier Part Number 1: C98044; Rated Current: 450mA; DC Resistance: 250mΩ; RoHS: Yes; ComponentLink1Description: Datasheet; ComponentLink1URL: https://wmsc.lcsc.com/wmsc/upload/file/pdf/v2/lcsc/2304140030_Murata-Electronics-LQP03TN3N0B02D_C98044.pdf; ComponentLink2Description: JLCPCB Part URL; ComponentLink2URL: https://jlcpcb.com/partdetail/C98044; ComponentLink3Description: LCSC Part URL; ComponentLink3URL: https://lcsc.com/product-detail/Inductors-SMD_Murata-Electronics-Murata-Electronics-LQP03TN3N0B02D_C98044.html
footprint IND-0201 (0201 (0603M) Inductor)
pins: 1, 2

## LQP03TN3N0BZ2D
designator L?  Inductance: 3nH
Inductor, 3nH, 250mΩ, 450mA, SMD 0201; Manufacturer: Murata Electronics; Manufacturer Part Number: LQP03TN3N0BZ2D; Self-Resonant Frequency: 9.5GHz; Q Factor: 14@500MHz; Package Size: 0201; JLCPCB Basic Part: No; JLCPCB Part Number: C5752263; Supplier 1: LCSC; Category: Inductors; Supplier Part Number 1: C5752263; Rated Current: 450mA; DC Resistance: 250mΩ; RoHS: Yes; ComponentLink1Description: Datasheet; ComponentLink1URL: https://wmsc.lcsc.com/wmsc/upload/file/pdf/v2/lcsc/2308111340_Murata-Electronics-LQP03TN3N0BZ2D_C5752263.pdf; ComponentLink2Description: JLCPCB Part URL; ComponentLink2URL: https://jlcpcb.com/partdetail/C5752263; ComponentLink3Description: LCSC Part URL; ComponentLink3URL: https://lcsc.com/product-detail/Inductors-SMD_Murata-Electronics-Murata-Electronics-LQP03TN3N0BZ2D_C5752263.html
footprint IND-0201 (0201 (0603M) Inductor)
pins: 1, 2

## LQP03TN3N0C02D
designator L?  Inductance: 3nH
Inductor, 3nH, 250mΩ, 450mA, SMD 0201; Manufacturer: Murata Electronics; Manufacturer Part Number: LQP03TN3N0C02D; Self-Resonant Frequency: 9.5GHz; Q Factor: 14@500MHz; Package Size: 0201; JLCPCB Basic Part: No; JLCPCB Part Number: C162614; Supplier 1: LCSC; Category: Inductors; Supplier Part Number 1: C162614; Rated Current: 450mA; DC Resistance: 250mΩ; RoHS: Yes; ComponentLink1Description: Datasheet; ComponentLink1URL: https://wmsc.lcsc.com/wmsc/upload/file/pdf/v2/lcsc/1811081522_Murata-Electronics-LQP03TN3N0C02D_C162614.pdf; ComponentLink2Description: JLCPCB Part URL; ComponentLink2URL: https://jlcpcb.com/partdetail/C162614; ComponentLink3Description: LCSC Part URL; ComponentLink3URL: https://lcsc.com/product-detail/Inductors-SMD_Murata-Electronics-Murata-Electronics-LQP03TN3N0C02D_C162614.html
footprint IND-0201 (0201 (0603M) Inductor)
pins: 1, 2

## LQP03TN3N2B02D
designator L?  Inductance: 3.2nH
Inductor, 3.2nH, 250mΩ, 450mA, SMD 0201; Manufacturer: Murata Electronics; Manufacturer Part Number: LQP03TN3N2B02D; Self-Resonant Frequency: 8GHz; Q Factor: 14@500MHz; Package Size: 0201; JLCPCB Basic Part: No; JLCPCB Part Number: C206418; Supplier 1: LCSC; Category: Inductors; Supplier Part Number 1: C206418; Rated Current: 450mA; DC Resistance: 250mΩ; RoHS: Yes; ComponentLink1Description: Datasheet; ComponentLink1URL: https://wmsc.lcsc.com/wmsc/upload/file/pdf/v2/lcsc/2304140030_Murata-Electronics-LQP03TN3N2B02D_C206418.pdf; ComponentLink2Description: JLCPCB Part URL; ComponentLink2URL: https://jlcpcb.com/partdetail/C206418; ComponentLink3Description: LCSC Part URL; ComponentLink3URL: https://lcsc.com/product-detail/Inductors-SMD_Murata-Electronics-Murata-Electronics-LQP03TN3N2B02D_C206418.html
footprint IND-0201 (0201 (0603M) Inductor)
pins: 1, 2

## LQP03TN3N3B02D
designator L?  Inductance: 3.3nH
Inductor, 3.3nH, 250mΩ, 450mA, SMD 0201; Manufacturer: Murata Electronics; Manufacturer Part Number: LQP03TN3N3B02D; Self-Resonant Frequency: 8GHz; Q Factor: 14@500MHz; Package Size: 0201; JLCPCB Basic Part: No; JLCPCB Part Number: C98045; Supplier 1: LCSC; Category: Inductors; Supplier Part Number 1: C98045; Rated Current: 450mA; DC Resistance: 250mΩ; RoHS: Yes; ComponentLink1Description: Datasheet; ComponentLink1URL: https://wmsc.lcsc.com/wmsc/upload/file/pdf/v2/lcsc/2304140030_Murata-Electronics-LQP03TN3N3B02D_C98045.pdf; ComponentLink2Description: JLCPCB Part URL; ComponentLink2URL: https://jlcpcb.com/partdetail/C98045; ComponentLink3Description: LCSC Part URL; ComponentLink3URL: https://lcsc.com/product-detail/Inductors-SMD_Murata-Electronics-Murata-Electronics-LQP03TN3N3B02D_C98045.html
footprint IND-0201 (0201 (0603M) Inductor)
pins: 1, 2

## LQP03TN3N3C02D
designator L?  Inductance: 3.3nH
Inductor, 3.3nH, 250mΩ, 450mA, SMD 0201; Manufacturer: Murata Electronics; Manufacturer Part Number: LQP03TN3N3C02D; Self-Resonant Frequency: 8GHz; Q Factor: 14@500MHz; Package Size: 0201; JLCPCB Basic Part: No; JLCPCB Part Number: C206426; Supplier 1: LCSC; Category: Inductors; Supplier Part Number 1: C206426; Rated Current: 450mA; DC Resistance: 250mΩ; RoHS: Yes; ComponentLink1Description: Datasheet; ComponentLink1URL: https://wmsc.lcsc.com/wmsc/upload/file/pdf/v2/lcsc/2304140030_Murata-Electronics-LQP03TN3N3C02D_C206426.pdf; ComponentLink2Description: JLCPCB Part URL; ComponentLink2URL: https://jlcpcb.com/partdetail/C206426; ComponentLink3Description: LCSC Part URL; ComponentLink3URL: https://lcsc.com/product-detail/Inductors-SMD_Murata-Electronics-Murata-Electronics-LQP03TN3N3C02D_C206426.html
footprint IND-0201 (0201 (0603M) Inductor)
pins: 1, 2

## LQP03TN3N4C02D
designator L?  Inductance: 3.4nH
Inductor, 3.4nH, 250mΩ, 450mA, SMD 0201; Manufacturer: Murata Electronics; Manufacturer Part Number: LQP03TN3N4C02D; Self-Resonant Frequency: 7GHz; Q Factor: 14@500MHz; Package Size: 0201; JLCPCB Basic Part: No; JLCPCB Part Number: C162615; Supplier 1: LCSC; Category: Inductors; Supplier Part Number 1: C162615; Rated Current: 450mA; DC Resistance: 250mΩ; RoHS: Yes; ComponentLink1Description: Datasheet; ComponentLink1URL: https://wmsc.lcsc.com/wmsc/upload/file/pdf/v2/lcsc/2304140030_Murata-Electronics-LQP03TN3N4C02D_C162615.pdf; ComponentLink2Description: JLCPCB Part URL; ComponentLink2URL: https://jlcpcb.com/partdetail/C162615; ComponentLink3Description: LCSC Part URL; ComponentLink3URL: https://lcsc.com/product-detail/Inductors-SMD_Murata-Electronics-Murata-Electronics-LQP03TN3N4C02D_C162615.html
footprint IND-0201 (0201 (0603M) Inductor)
pins: 1, 2

## LQP03TN3N6B02D
designator L?  Inductance: 3.6nH
Inductor, 3.6nH, 300mΩ, 400mA, SMD 0201; Manufacturer: Murata Electronics; Manufacturer Part Number: LQP03TN3N6B02D; Self-Resonant Frequency: 6GHz; Q Factor: 14@500MHz; Package Size: 0201; JLCPCB Basic Part: No; JLCPCB Part Number: C162616; Supplier 1: LCSC; Category: Inductors; Supplier Part Number 1: C162616; Rated Current: 400mA; DC Resistance: 300mΩ; RoHS: Yes; ComponentLink1Description: Datasheet; ComponentLink1URL: https://wmsc.lcsc.com/wmsc/upload/file/pdf/v2/lcsc/2304140030_Murata-Electronics-LQP03TN3N6B02D_C162616.pdf; ComponentLink2Description: JLCPCB Part URL; ComponentLink2URL: https://jlcpcb.com/partdetail/C162616; ComponentLink3Description: LCSC Part URL; ComponentLink3URL: https://lcsc.com/product-detail/Inductors-SMD_Murata-Electronics-Murata-Electronics-LQP03TN3N6B02D_C162616.html
footprint IND-0201 (0201 (0603M) Inductor)
pins: 1, 2

## LQP03TN3N6C02D
designator L?  Inductance: 3.6nH
Inductor, 3.6nH, 300mΩ, 400mA, SMD 0201; Manufacturer: Murata Electronics; Manufacturer Part Number: LQP03TN3N6C02D; Self-Resonant Frequency: 6GHz; Q Factor: 14@500MHz; Package Size: 0201; JLCPCB Basic Part: No; JLCPCB Part Number: C206422; Supplier 1: LCSC; Category: Inductors; Supplier Part Number 1: C206422; Rated Current: 400mA; DC Resistance: 300mΩ; RoHS: Yes; ComponentLink1Description: Datasheet; ComponentLink1URL: https://wmsc.lcsc.com/wmsc/upload/file/pdf/v2/lcsc/2304140030_Murata-Electronics-LQP03TN3N6C02D_C206422.pdf; ComponentLink2Description: JLCPCB Part URL; ComponentLink2URL: https://jlcpcb.com/partdetail/C206422; ComponentLink3Description: LCSC Part URL; ComponentLink3URL: https://lcsc.com/product-detail/Inductors-SMD_Murata-Electronics-Murata-Electronics-LQP03TN3N6C02D_C206422.html
footprint IND-0201 (0201 (0603M) Inductor)
pins: 1, 2

## LQP03TN4N0B02D
designator L?  Inductance: 4nH
Inductor, 4nH, 400mΩ, 350mA, SMD 0201; Manufacturer: Murata Electronics; Manufacturer Part Number: LQP03TN4N0B02D; Self-Resonant Frequency: 5.3GHz; Q Factor: 14@500MHz; Package Size: 0201; JLCPCB Basic Part: No; JLCPCB Part Number: C162619; Supplier 1: LCSC; Category: Inductors; Supplier Part Number 1: C162619; Rated Current: 350mA; DC Resistance: 400mΩ; RoHS: Yes; ComponentLink1Description: Datasheet; ComponentLink1URL: https://wmsc.lcsc.com/wmsc/upload/file/pdf/v2/lcsc/2304140030_Murata-Electronics-LQP03TN4N0B02D_C162619.pdf; ComponentLink2Description: JLCPCB Part URL; ComponentLink2URL: https://jlcpcb.com/partdetail/C162619; ComponentLink3Description: LCSC Part URL; ComponentLink3URL: https://lcsc.com/product-detail/Inductors-SMD_Murata-Electronics-Murata-Electronics-LQP03TN4N0B02D_C162619.html
footprint IND-0201 (0201 (0603M) Inductor)
pins: 1, 2

## LQP03TN4N2B02D
designator L?  Inductance: 4.2nH
Inductor, 4.2nH, 400mΩ, 350mA, SMD 0201; Manufacturer: Murata Electronics; Manufacturer Part Number: LQP03TN4N2B02D; Self-Resonant Frequency: 5.3GHz; Q Factor: 14@500MHz; Package Size: 0201; JLCPCB Basic Part: No; JLCPCB Part Number: C206416; Supplier 1: LCSC; Category: Inductors; Supplier Part Number 1: C206416; Rated Current: 350mA; DC Resistance: 400mΩ; RoHS: Yes; ComponentLink1Description: Datasheet; ComponentLink1URL: https://wmsc.lcsc.com/wmsc/upload/file/pdf/v2/lcsc/2304140030_Murata-Electronics-LQP03TN4N2B02D_C206416.pdf; ComponentLink2Description: JLCPCB Part URL; ComponentLink2URL: https://jlcpcb.com/partdetail/C206416; ComponentLink3Description: LCSC Part URL; ComponentLink3URL: https://lcsc.com/product-detail/Inductors-SMD_Murata-Electronics-Murata-Electronics-LQP03TN4N2B02D_C206416.html
footprint IND-0201 (0201 (0603M) Inductor)
pins: 1, 2

## LQP03TN4N3H02D
designator L?  Inductance: 4.3nH
Inductor, 4.3nH, ±3%, 400mΩ, 350mA, SMD 0201; Manufacturer: Murata Electronics; Manufacturer Part Number: LQP03TN4N3H02D; Self-Resonant Frequency: 5.3GHz; Q Factor: 14@500MHz; Package Size: 0201; JLCPCB Basic Part: No; JLCPCB Part Number: C162620; Supplier 1: LCSC; Category: Inductors; Supplier Part Number 1: C162620; Tolerance: ±3%; Rated Current: 350mA; DC Resistance: 400mΩ; RoHS: Yes; ComponentLink1Description: Datasheet; ComponentLink1URL: https://wmsc.lcsc.com/wmsc/upload/file/pdf/v2/lcsc/2304140030_Murata-Electronics-LQP03TN4N3H02D_C162620.pdf; ComponentLink2Description: JLCPCB Part URL; ComponentLink2URL: https://jlcpcb.com/partdetail/C162620; ComponentLink3Description: LCSC Part URL; ComponentLink3URL: https://lcsc.com/product-detail/Inductors-SMD_Murata-Electronics-Murata-Electronics-LQP03TN4N3H02D_C162620.html
footprint IND-0201 (0201 (0603M) Inductor)
pins: 1, 2

## LQP03TN4N7H02D
designator L?  Inductance: 4.7nH
Inductor, 4.7nH, ±3%, 400mΩ, 350mA, SMD 0201; Manufacturer: Murata Electronics; Manufacturer Part Number: LQP03TN4N7H02D; Self-Resonant Frequency: 4.4GHz; Q Factor: 14@500MHz; Package Size: 0201; JLCPCB Basic Part: No; JLCPCB Part Number: C86126; Supplier 1: LCSC; Category: Inductors; Supplier Part Number 1: C86126; Tolerance: ±3%; Rated Current: 350mA; DC Resistance: 400mΩ; RoHS: Yes; ComponentLink1Description: Datasheet; ComponentLink1URL: https://wmsc.lcsc.com/wmsc/upload/file/pdf/v2/lcsc/2304140030_Murata-Electronics-LQP03TN4N7H02D_C86126.pdf; ComponentLink2Description: JLCPCB Part URL; ComponentLink2URL: https://jlcpcb.com/partdetail/C86126; ComponentLink3Description: LCSC Part URL; ComponentLink3URL: https://lcsc.com/product-detail/Inductors-SMD_Murata-Electronics-Murata-Electronics-LQP03TN4N7H02D_C86126.html
footprint IND-0201 (0201 (0603M) Inductor)
pins: 1, 2

## LQP03TN4N7J02D
designator L?  Inductance: 4.7nH
Inductor, 4.7nH, ±5%, 400mΩ, 350mA, SMD 0201; Manufacturer: Murata Electronics; Manufacturer Part Number: LQP03TN4N7J02D; Self-Resonant Frequency: 4.4GHz; Q Factor: 14@500MHz; Package Size: 0201; JLCPCB Basic Part: No; JLCPCB Part Number: C162621; Supplier 1: LCSC; Category: Inductors; Supplier Part Number 1: C162621; Tolerance: ±5%; Rated Current: 350mA; DC Resistance: 400mΩ; RoHS: Yes; ComponentLink1Description: Datasheet; ComponentLink1URL: https://wmsc.lcsc.com/wmsc/upload/file/pdf/v2/lcsc/1811081543_Murata-Electronics-LQP03TN4N7J02D_C162621.pdf; ComponentLink2Description: JLCPCB Part URL; ComponentLink2URL: https://jlcpcb.com/partdetail/C162621; ComponentLink3Description: LCSC Part URL; ComponentLink3URL: https://lcsc.com/product-detail/Inductors-SMD_Murata-Electronics-Murata-Electronics-LQP03TN4N7J02D_C162621.html
footprint IND-0201 (0201 (0603M) Inductor)
pins: 1, 2

## LQP03TN5N1H02D
designator L?  Inductance: 5.1nH
Inductor, 5.1nH, ±3%, 400mΩ, 350mA, SMD 0201; Manufacturer: Murata Electronics; Manufacturer Part Number: LQP03TN5N1H02D; Self-Resonant Frequency: 4.2GHz; Q Factor: 14@500MHz; Package Size: 0201; JLCPCB Basic Part: No; JLCPCB Part Number: C162624; Supplier 1: LCSC; Category: Inductors; Supplier Part Number 1: C162624; Tolerance: ±3%; Rated Current: 350mA; DC Resistance: 400mΩ; RoHS: Yes; ComponentLink1Description: Datasheet; ComponentLink1URL: https://wmsc.lcsc.com/wmsc/upload/file/pdf/v2/lcsc/2304140030_Murata-Electronics-LQP03TN5N1H02D_C162624.pdf; ComponentLink2Description: JLCPCB Part URL; ComponentLink2URL: https://jlcpcb.com/partdetail/C162624; ComponentLink3Description: LCSC Part URL; ComponentLink3URL: https://lcsc.com/product-detail/Inductors-SMD_Murata-Electronics-Murata-Electronics-LQP03TN5N1H02D_C162624.html
footprint IND-0201 (0201 (0603M) Inductor)
pins: 1, 2

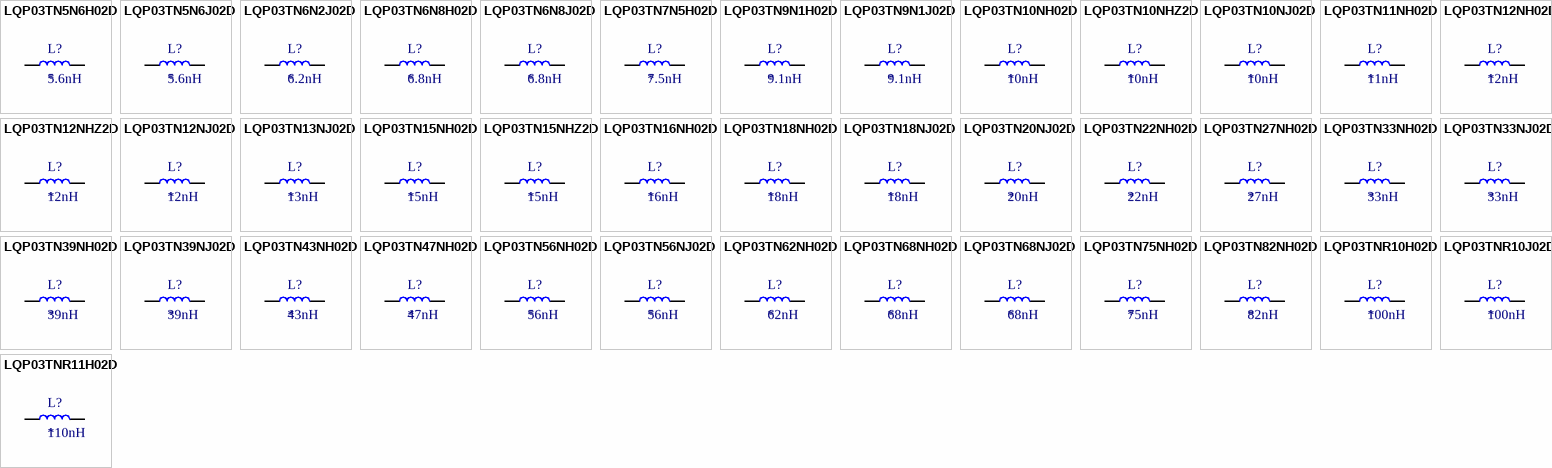
[diagram p4: symbols LQP03TN5N6H02D to LQP03TNR11H02D]

## LQP03TN5N6H02D
designator L?  Inductance: 5.6nH
Inductor, 5.6nH, ±3%, 400mΩ, 350mA, SMD 0201; Manufacturer: Murata Electronics; Manufacturer Part Number: LQP03TN5N6H02D; Self-Resonant Frequency: 4GHz; Q Factor: 14@500MHz; Package Size: 0201; JLCPCB Basic Part: No; JLCPCB Part Number: C86127; Supplier 1: LCSC; Category: Inductors; Supplier Part Number 1: C86127; Tolerance: ±3%; Rated Current: 350mA; DC Resistance: 400mΩ; RoHS: Yes; ComponentLink1Description: Datasheet; ComponentLink1URL: https://wmsc.lcsc.com/wmsc/upload/file/pdf/v2/lcsc/2304140030_Murata-Electronics-LQP03TN5N6H02D_C86127.pdf; ComponentLink2Description: JLCPCB Part URL; ComponentLink2URL: https://jlcpcb.com/partdetail/C86127; ComponentLink3Description: LCSC Part URL; ComponentLink3URL: https://lcsc.com/product-detail/Inductors-SMD_Murata-Electronics-Murata-Electronics-LQP03TN5N6H02D_C86127.html
footprint IND-0201 (0201 (0603M) Inductor)
pins: 1, 2

## LQP03TN5N6J02D
designator L?  Inductance: 5.6nH
Inductor, 5.6nH, ±5%, 400mΩ, 350mA, SMD 0201; Manufacturer: Murata Electronics; Manufacturer Part Number: LQP03TN5N6J02D; Self-Resonant Frequency: 4GHz; Q Factor: 14@500MHz; Package Size: 0201; JLCPCB Basic Part: No; JLCPCB Part Number: C206411; Supplier 1: LCSC; Category: Inductors; Supplier Part Number 1: C206411; Tolerance: ±5%; Rated Current: 350mA; DC Resistance: 400mΩ; RoHS: Yes; ComponentLink1Description: Datasheet; ComponentLink1URL: https://wmsc.lcsc.com/wmsc/upload/file/pdf/v2/lcsc/2304140030_Murata-Electronics-LQP03TN5N6J02D_C206411.pdf; ComponentLink2Description: JLCPCB Part URL; ComponentLink2URL: https://jlcpcb.com/partdetail/C206411; ComponentLink3Description: LCSC Part URL; ComponentLink3URL: https://lcsc.com/product-detail/Inductors-SMD_Murata-Electronics-Murata-Electronics-LQP03TN5N6J02D_C206411.html
footprint IND-0201 (0201 (0603M) Inductor)
pins: 1, 2

## LQP03TN6N2J02D
designator L?  Inductance: 6.2nH
Inductor, 6.2nH, ±5%, 600mΩ, 300mA, SMD 0201; Manufacturer: Murata Electronics; Manufacturer Part Number: LQP03TN6N2J02D; Self-Resonant Frequency: 4GHz; Q Factor: 14@500MHz; Package Size: 0201; JLCPCB Basic Part: No; JLCPCB Part Number: C206410; Supplier 1: LCSC; Category: Inductors; Supplier Part Number 1: C206410; Tolerance: ±5%; Rated Current: 300mA; DC Resistance: 600mΩ; RoHS: Yes; ComponentLink1Description: Datasheet; ComponentLink1URL: https://wmsc.lcsc.com/wmsc/upload/file/pdf/v2/lcsc/2304140030_Murata-Electronics-LQP03TN6N2J02D_C206410.pdf; ComponentLink2Description: JLCPCB Part URL; ComponentLink2URL: https://jlcpcb.com/partdetail/C206410; ComponentLink3Description: LCSC Part URL; ComponentLink3URL: https://lcsc.com/product-detail/Inductors-SMD_Murata-Electronics-Murata-Electronics-LQP03TN6N2J02D_C206410.html
footprint IND-0201 (0201 (0603M) Inductor)
pins: 1, 2